# Altium schematic symbol library pth-transformer.SchLib: 3 symbols
Pins are listed as number, name and electrical type; pins without a type are passive.

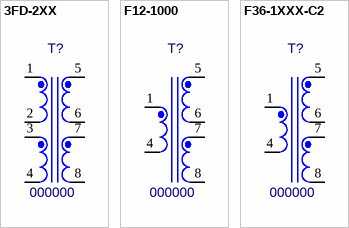
[diagram p0: symbols 3FD-2XX to F36-1XXX-C2]

## 3FD-2XX
designator T?, comment 000000
Transformer 1.1VA 115V,230V; MF: *; PN: 000000; Value: *; Package: PTH; ExtraInfo: *
footprint 3FD-2XX (1.1VA Power Transformer)
pins: 1, 2, 3, 4, 5, 6, 7, 8

## F12-1000
designator T?, comment 000000
Transformer 20VA 115V; MF: *; PN: 000000; Value: *; Package: PTH; ExtraInfo: *
footprint F12-1000 (20VA Power Transformer)
pins: 1, 4, 5, 6, 7, 8

## F36-1XXX-C2
designator T?, comment 000000
Transformer 36VA 115V; MF: *; PN: 000000; Value: *; Package: PTH; ExtraInfo: *
footprint F36-1XXX-C2 (36VA Power Transformer)
pins: 1, 4, 5, 6, 7, 8